# Altium footprint library EFPR-HPTECH.PcbLib: 11 footprints
Each footprint in its own frame and in the unit in brackets; x right, y up, seen from the top. Pads: shape width x height; smd on the part's side, far side on the other; paste and mask are expansions set on the pad; w line width, h text height; cw(c..) or ccw(c..) is an arc to the next point about the centre after c.
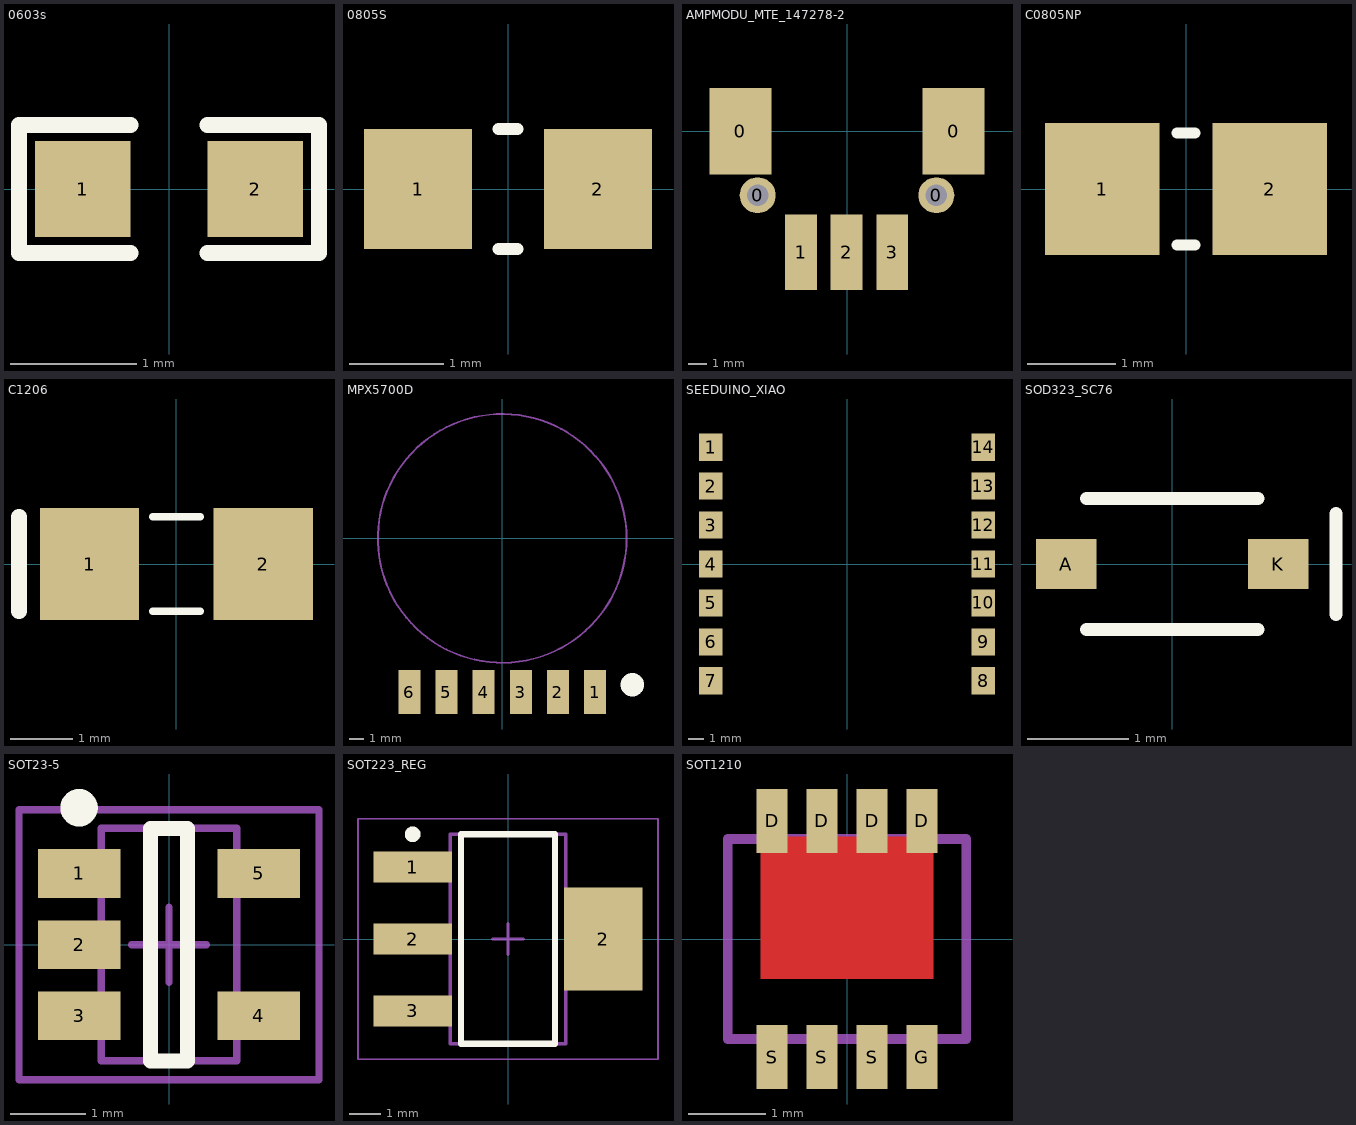
[diagram p0: the footprints below, top view; thin cyan lines are the x and y axes]

## 0603s [mil] "Chip Resistor; Body 1.6 x 0.8 mm (LxW typ); Small"
height 433.07
pads (2):
  rect 30x30 smd: 1(-27,0) 2(27,0)
Top Overlay:
  lines w5: -12,-20 -47,-20 -47,20 -12,20 ; 12,-20 47,-20 47,20 12,20
3D body: height 20, standoff 0, extent -30,-15 30,15

## 0805S [mm] "Chip Resistor; Body 2.0 x 1.2 mm (LxW typ); Small"
height 1.1
pads (2):
  rect 1.143x1.27 smd: 1(-0.95,0) 2(0.95,0)
Top Overlay:
  lines w0.127: -0.1,-0.635 0.1,-0.635 ; -0.1,0.635 0.1,0.635
3D body: height 1, standoff 0, extent -1.016,-0.635 1.016,0.635

## AMPMODU_MTE_147278-2 [mil] "AMPMODU MTE; 3W; SMD; RA"
height 433.07
pads (7):
  rect 136x190 smd: 0(-233.79,0) 0(233.79,0)
  round 78.74 hole 47: 0(-195.79,-140) 0(195.79,-140)
  rect 70x165 smd: 1(-100.79,-265) 2(-0.79,-265) 3(99.21,-265)
3D body "c-147278-2-n-3d.stp": height 277.95, standoff -43.31, extent -266.16,-340.16 266.16,314.96

## C0805NP [mm] "Chip Capacitor; Body 2.0 x 1.2 mm (LxW typ)"
height 1.1
pads (2):
  rect 1.3x1.5 smd: 1(-0.95,0) 2(0.95,0)
Top Overlay:
  lines w0.127: -0.1,-0.635 0.1,-0.635 ; -0.1,0.635 0.1,0.635
3D body: height 1.2, standoff 0, extent -1,-0.6 1,0.6

## C1206 [mm] "Chip Capacitor; Body 3.2 x 1.6 mm (LxW typ)"
height 1.35
pads (2):
  rect 1.6x1.8 smd: 1(-1.4,0) 2(1.4,0)
Top Overlay:
  lines w0.127: -0.381,-0.762 0.381,-0.762 ; -0.381,0.762 0.381,0.762
  lines w0.254: -2.54,-0.762 -2.54,0.762
3D body: height 1.8, standoff 0, extent -1.651,-0.762 1.651,0.762

## MPX5700D [mm]
pads (6):
  rect 1.5x3 smd: 1(6.35,-10.5) 2(3.81,-10.5) 3(1.27,-10.5) 4(-1.27,-10.5) 5(-3.81,-10.5) 6(-6.35,-10.5)
Top Overlay:
  circle w0.8: c8.89,-10 r0.4
Mechanical 1:
  circle w0.127: c0,0 r8.5
3D body "MPX5700D.STEP": height 3, standoff -2.6, extent -8.508,-10.737 8.508,8.508

## SEEDUINO_XIAO [mil]
pads (14):
  rect 60x70 smd: 1(-350,300) 2(-350,200) 3(-350,100) 4(-350,0) 5(-350,-100) 6(-350,-200) 7(-350,-300) 8(350,-300) 9(350,-200) 10(350,-100) 11(350,0) 12(350,100) 13(350,200) 14(350,300)
3D body "Seeeduino Xiao.STEP": height 169.8, standoff 1.69, extent -350.39,-417.32 350.39,468.5

## SOD323_SC76 [mm] "Small Outline Diode; 1.7x1.3mm Body"
height 1.05
pads (2):
  rect 0.6x0.5 smd: A(-1.05,0) K(1.05,0)
Top Overlay:
  lines w0.127: -0.85,-0.65 0.85,-0.65 ; -0.85,0.65 0.85,0.65 ; 1.625,-0.5 1.625,0.5
3D body: height 1.1, standoff 0, extent -0.85,-0.65 0.85,0.65
3D body: height 0.13, standoff 0, extent -1.25,-0.15 1.25,0.15

## SOT23-5 [mm] "SOT23, 5-Leads, Body 2.9x1.6mm, Pitch 0.95mm, Lead Span 2.8mm"
height 1.45
pads (5):
  rect 1.1x0.65 smd: 1(-1.2,0.95) 2(-1.2,0) 3(-1.2,-0.95) 4(1.2,-0.95) 5(1.2,0.95)
Top Overlay:
  circle w0.25: c-1.2,1.825 r0.125
  lines w0.2: -0.25,-1.55 0.25,-1.55 0.25,1.55 -0.25,1.55 -0.25,-1.55
Mechanical 13:
  lines w0.1: -0.9,-1.55 -0.9,1.55 0.9,1.55 0.9,-1.55 -0.9,-1.55
Mechanical 15:
  lines w0.1: -0.5,0 0.5,0 ; 0,-0.5 0,0.5 ; -2,-1.8 -2,1.8 2,1.8 2,-1.8 -2,-1.8
3D body: height 1.45, standoff 0, extent -0.9,-1.55 0.9,1.55

## SOT223_REG [mm] "SOT223, 3-Leads, Body 6.5x3.5mm, Pitch 2.3mm, Lead Span 7mm, IPC Low Density"
height 1.8
pads (4):
  rect 2.5x1 smd: 1(-3.05,2.3) 2(-3.05,0) 3(-3.05,-2.3)
  rect 2.5x3.3 smd: 2(3.05,0)
Top Overlay:
  circle w0.25: c-3.05,3.35 r0.125
  lines w0.2: -1.5,-3.35 -1.5,3.35 1.5,3.35 1.5,-3.35 -1.5,-3.35
Mechanical 13:
  lines w0.1: -1.85,-3.35 -1.85,3.35 1.85,3.35 1.85,-3.35 -1.85,-3.35
Mechanical 15:
  lines w0.05: -4.8,-3.85 -4.8,3.85 4.8,3.85 4.8,-3.85 -4.8,-3.85
  lines w0.1: -0.5,0 0.5,0 ; 0,-0.5 0,0.5
3D body: height 1.8, standoff 0.02, extent -1.85,-3.35 1.85,3.35

## SOT1210 [mm] "LFPAK33; 0.65mm Pitch;"
height 0.9
pads (8):
  rect 0.4x0.83 smd mask+0.05: D(-0.975,1.535) D(-0.325,1.535) D(0.325,1.535) D(0.975,1.535) G(0.975,-1.535) S(-0.975,-1.535) S(-0.325,-1.535) S(0.325,-1.535)
Top Layer:
  rectangle: -1.125,-0.52 1.125,1.33
Top Paste:
  region: 0.944,0.9 0.309,0.9 0.309,0.4 0.944,0.4
  region: 0.944,0.04 0.309,0.04 0.309,-0.46 0.944,-0.46
  rectangle: -0.944,-0.46 -0.309,0.04
  rectangle: -0.944,0.4 -0.309,0.9
Mechanical 13:
  lines w0.127: -1.55,-1.3 1.55,-1.3 1.55,1.3 -1.55,1.3 -1.55,-1.3
3D body: height 0.9, standoff 0, extent -1.55,-1.3 1.55,1.3